# EAGLE library part MSP430G2553 (library PP_DigitalIC)
Manufacturer Part #: MSP430G2553 Manufacturer: Texas Instruments Description: 16-bit Microcontrollers - MCU Mixed Signal MCU
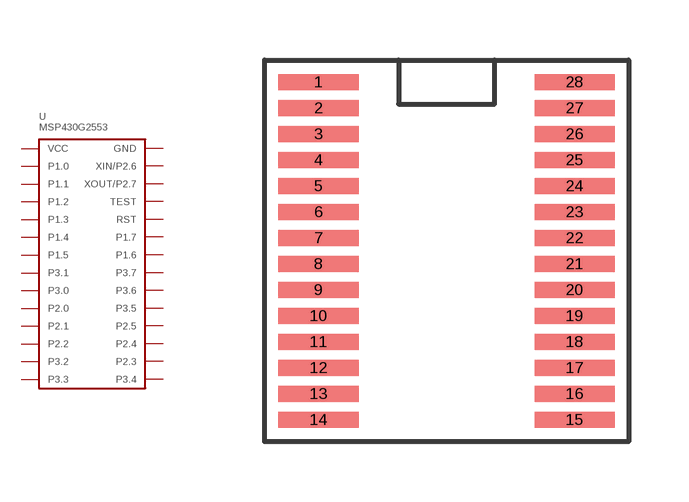
[diagram p0: symbol with the pads of MSP430G2553_TSSOP-28; footprint MSP430G2553_TSSOP-28]

Designator prefix U

## MSP430G2553IPW28  [MSP430G2553_TSSOP-28]
1  VCC
2  P1.0
3  P1.1
4  P1.2
5  P1.3
6  P1.4
7  P1.5
8  P3.1
9  P3.0
10  P2.0
11  P2.1
12  P2.2
13  P3.2
14  P3.3
15  P3.4
16  P2.3
17  P2.4
18  P2.5
19  P3.5
20  P3.6
21  P3.7
22  P1.6
23  P1.7
24  RST
25  TEST
26  XOUT/P2.7
27  XIN/P2.6
28  GND

## Footprint MSP430G2553_TSSOP-28 (pad centres in mm)
smd 2 x 0.4: 1 -3.2,4.225; 2 -3.2,3.575; 3 -3.2,2.925; 4 -3.2,2.275; 5 -3.2,1.625; 6 -3.2,0.975; 7 -3.2,0.325; 8 -3.2,-0.325; 9 -3.2,-0.975; 10 -3.2,-1.625; 11 -3.2,-2.275; 12 -3.2,-2.925; 13 -3.2,-3.575; 14 -3.2,-4.225; 15 3.2,-4.225; 16 3.2,-3.575; 17 3.2,-2.925; 18 3.2,-2.275; 19 3.2,-1.625; 20 3.2,-0.975; 21 3.2,-0.325; 22 3.2,0.325; 23 3.2,0.975; 24 3.2,1.625; 25 3.2,2.275; 26 3.2,2.925; 27 3.2,3.575; 28 3.2,4.225